# EAGLE library part CONNECTOR_RJ45_ETH (library HyTechDevices)
Pulse Electronics RJ45 Ethernet Magjack Datasheet <https://productfinder.pulseelectronics.com/api/open/part-attachments/datasheet/J00-0045NL>
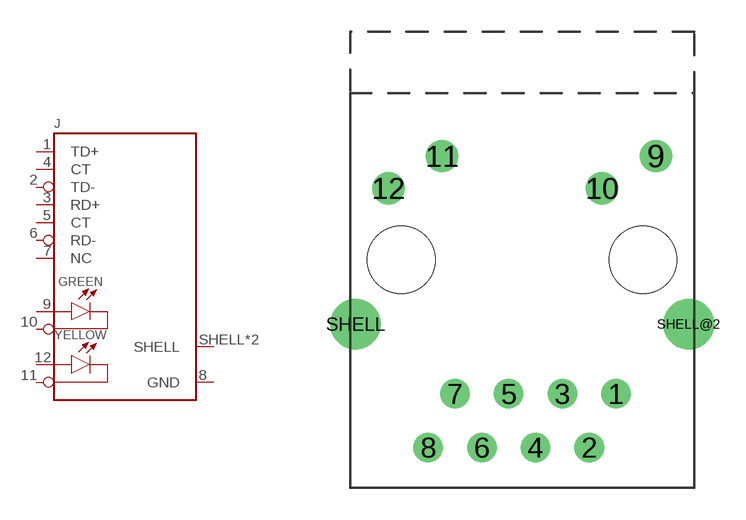
[diagram p74: symbol with the pads of RJ45_ETH; footprint RJ45_ETH]

Designator prefix J

## CONNECTOR_RJ45_ETH (DKPN: 553-1619-5-ND; MANUFACTURER: Pulse Electronics; MOPN: 673-J00-0045NL; MPN: J00-0045NL)  [RJ45_ETH]
1  TD+  in
2  TD-  in
3  RD+  out
4  CT  pas
5  CT  pas
6  RD-  out
7  NC  nc
8  GND  pwr
9  LED+  pas
10  LED-  pas
11  LED-  pas
12  LED+  pas
SHELL  SHELL  pas
SHELL@2  SHELL  pas

## Footprint RJ45_ETH (pad centres in mm)
Footprint for RJ45 Ethernet Connector Datasheet <https://productfinder.pulseelectronics.com/api/open/part-attachments/datasheet/J00-0045NL> Mechanical drawing A
drill 0.89: 1 4.445,-6.35; 2 3.175,-8.89; 3 1.905,-6.35; 4 0.635,-8.89; 5 -0.635,-6.35; 6 -1.905,-8.89; 7 -3.175,-6.35; 8 -4.445,-8.89
drill 1.02: 9 6.325,4.9; 10 3.785,3.38; 11 -3.785,4.9; 12 -6.325,3.38
drill 1.6: SHELL -7.875,-3.05; SHELL@2 7.875,-3.05
hole 3.2 at -5.715,0
hole 3.2 at 5.715,0